# Altium footprint library CONNECTEUR_FEMELLE_2-54mm_20_POS.PcbLib: 1 footprints
Each footprint in its own frame and in the unit in brackets; x right, y up, seen from the top. Pads: shape width x height; smd on the part's side, far side on the other; paste and mask are expansions set on the pad; w line width, h text height; cw(c..) or ccw(c..) is an arc to the next point about the centre after c.
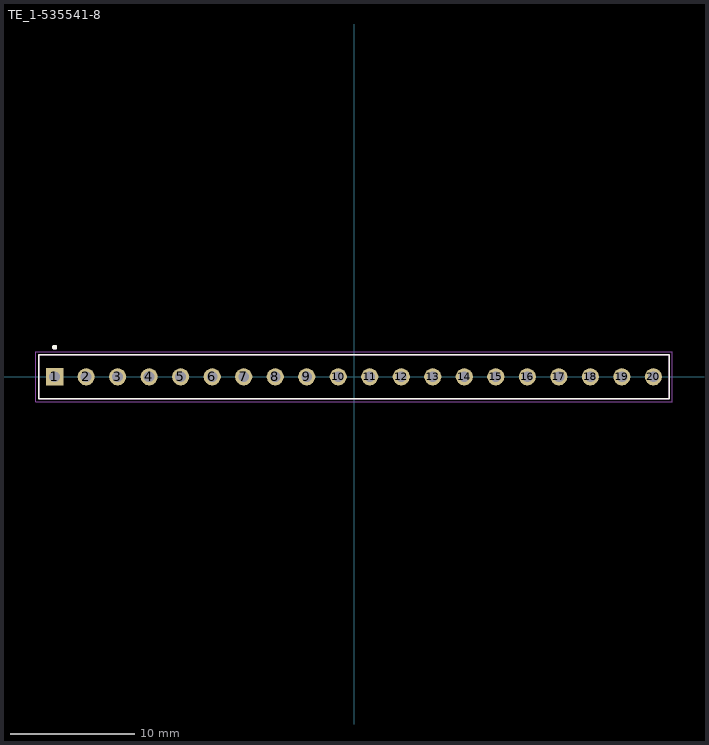
[diagram p0: the footprint, top view; thin cyan lines are the x and y axes]

## TE_1-535541-8 [mm]
pads (20):
  rect 1.388x1.388 hole 0.88: 1(-24.13,0)
  round 1.388 hole 0.88: 2(-21.59,0) 3(-19.05,0) 4(-16.51,0) 5(-13.97,0) 6(-11.43,0) 7(-8.89,0) 8(-6.35,0) 9(-3.81,0) 10(-1.27,0) 11(1.27,0) 12(3.81,0) 13(6.35,0) 14(8.89,0) 15(11.43,0) 16(13.97,0) 17(16.51,0) 18(19.05,0) 19(21.59,0) 20(24.13,0)
Top Overlay:
  circle w0.2: c-24.13,2.38 r0.1
  lines w0.127: -25.4,-1.78 25.4,-1.78 25.4,1.78 -25.4,1.78 -25.4,-1.78
Mechanical 13:
  circle w0.2: c-24.13,2.38 r0.1
  lines w0.127: -25.4,-1.78 25.4,-1.78 25.4,1.78 -25.4,1.78 -25.4,-1.78
Mechanical 15:
  lines w0.05: -25.65,-2.03 25.65,-2.03 25.65,2.03 -25.65,2.03 -25.65,-2.03
3D body "1-535541-8--3DModel-STEP.STEP": height 6.86, standoff -3.05, extent -25.4,-1.778 25.4,1.778